# EAGLE library part 091OLED (library ukhas)
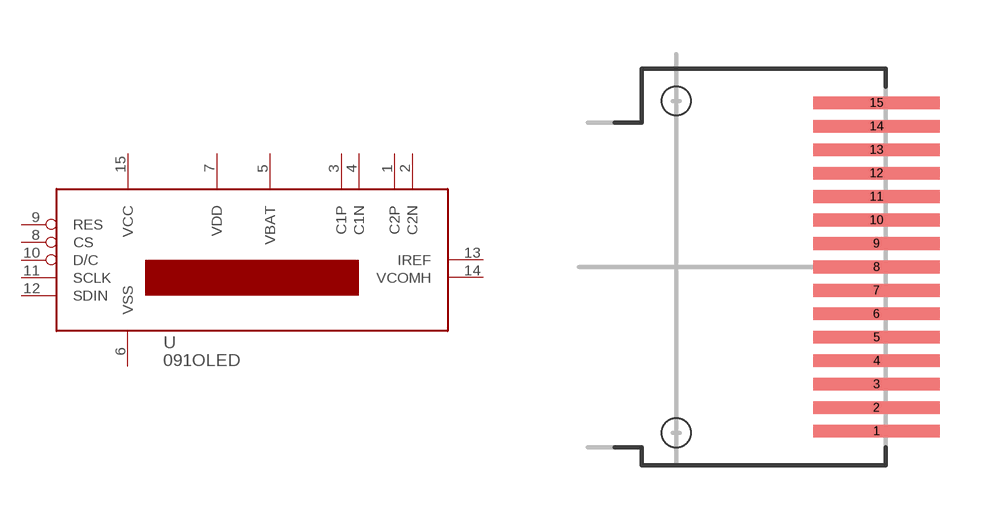
[diagram p0: symbol with the pads of 0.91OLEDCON; footprint 0.91OLEDCON]

Designator prefix -

## 091OLED  [0.91OLEDCON]
1  C2P
2  C2N
3  C1P
4  C1N
5  VBAT  sup
6  VSS  sup
7  VDD  sup
8  CS  in
9  RES  in
10  D/C  in
11  SCLK  in
12  SDIN  in
13  IREF  in
14  VCOMH  out
15  VCC  sup

## Footprint 0.91OLEDCON (pad centres in mm)
smd 3.5 x 0.35: 1 -0.25,-4.55; 2 -0.25,-3.9; 3 -0.25,-3.25; 4 -0.25,-2.6; 5 -0.25,-1.95; 6 -0.25,-1.3; 7 -0.25,-0.65; 8 -0.25,0; 9 -0.25,0.65; 10 -0.25,1.3; 11 -0.25,1.95; 12 -0.25,2.6; 13 -0.25,3.25; 14 -0.25,3.9; 15 -0.25,4.55
hole 0.8 at -5.8,4.6
hole 0.8 at -5.8,-4.6